# Altium schematic symbol library MU-RK3576J-MB.SCHLIB: 262 symbols (part 4 of 4)
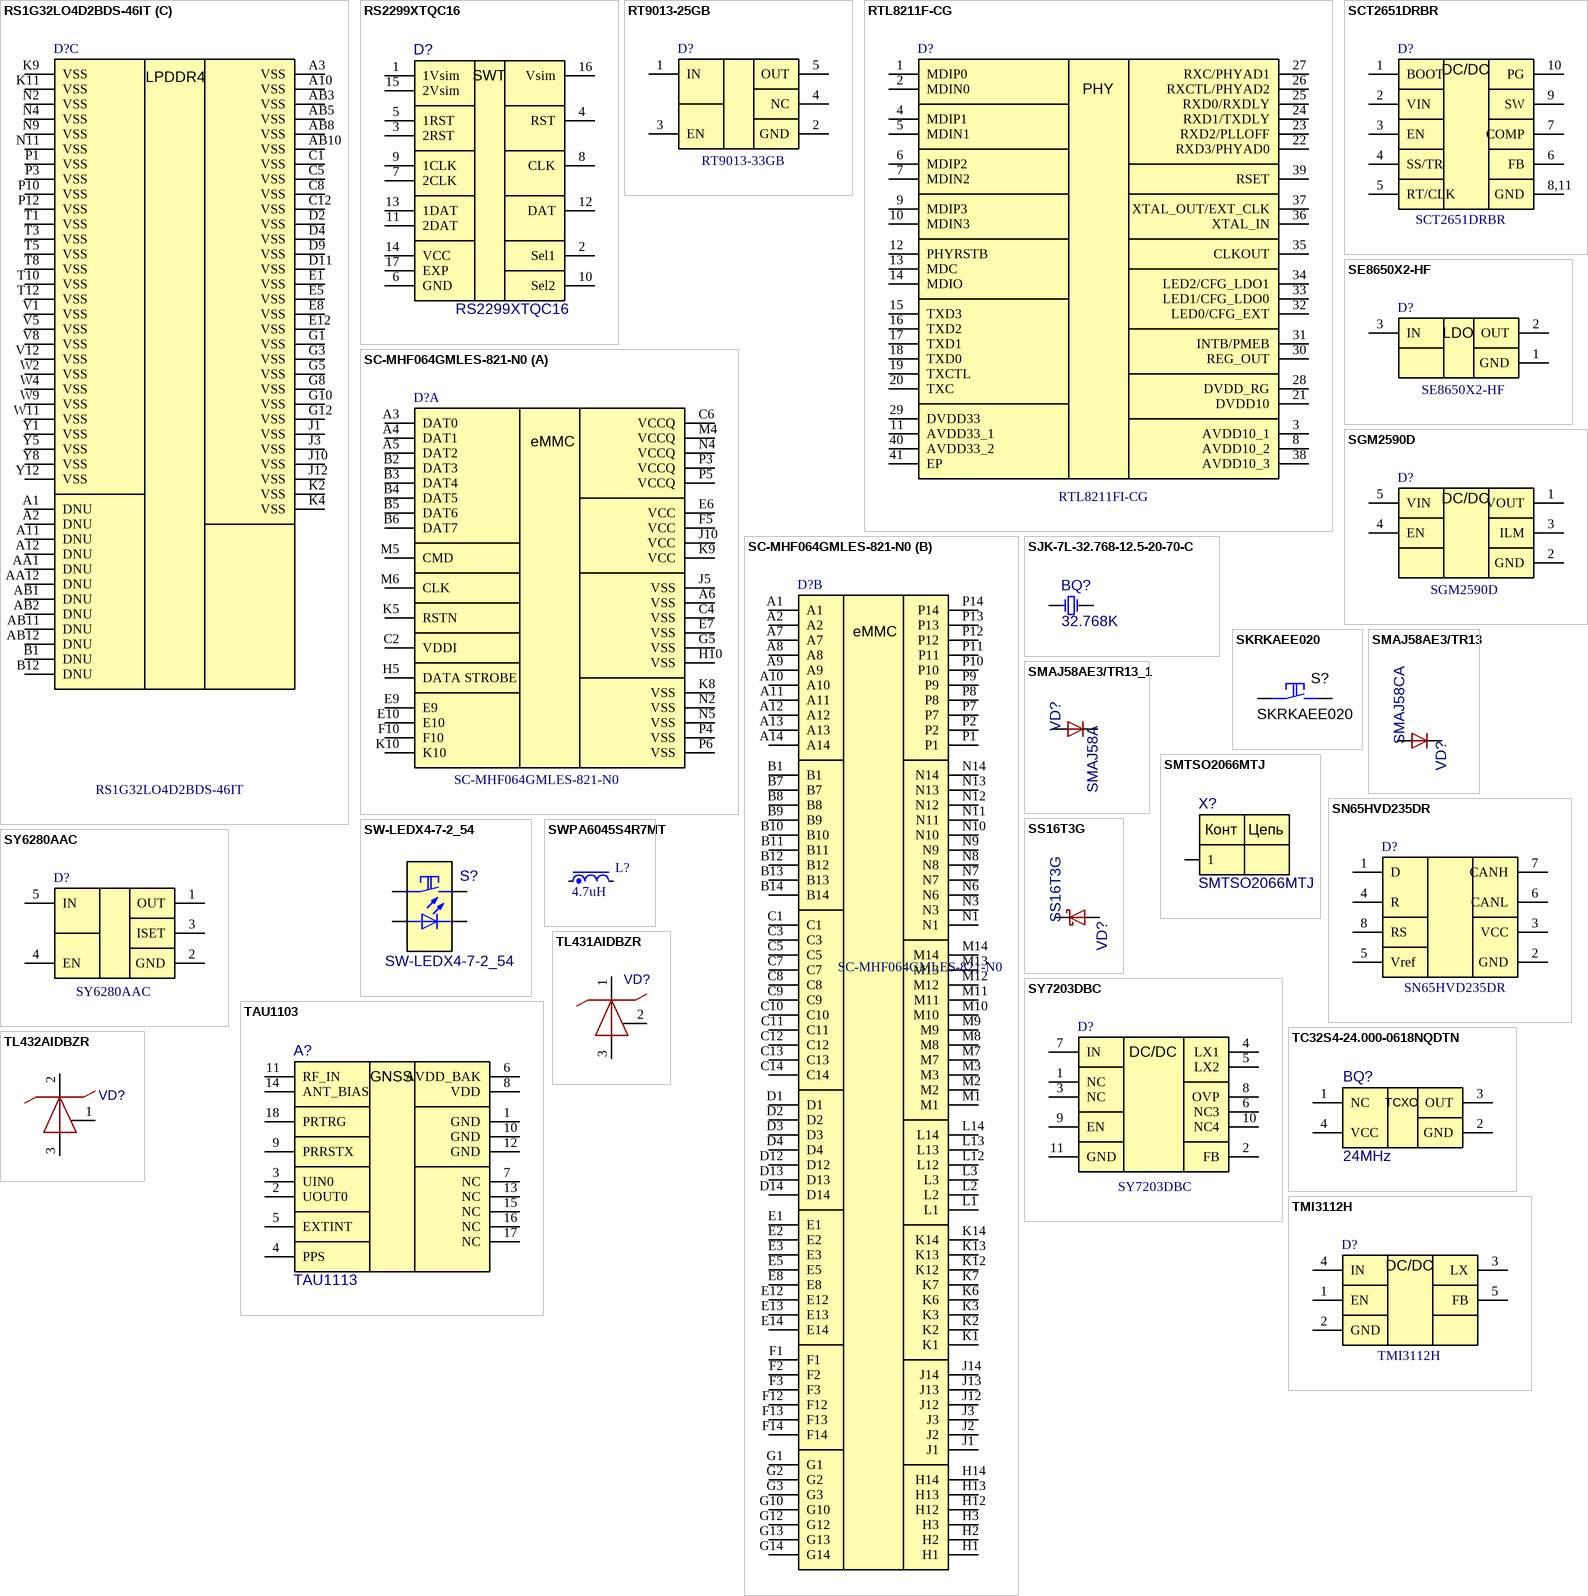
[diagram p16: symbols RS1G32LO4D2BDS-46IT to TMI3112H]

## SC-MHF064GMLES-821-N0
designator D?
Flash Card 64G-bytes 1.8V/3.3V Embedded MMC 153-Pin FBGA; Manufacturer: Samsung; Analog: KLM8G1GETF-B041; Check: False; Part Number: SC-MHF064GMLES-821-N0; NameFromManufacturer: SC-MHF064GMLES-821-N0; Value: SC-MHF064GMLES-821-N0; ComponentLink1Description: DATASHEET; Last changed: 24.03.2023
footprint KLMBG2JENB-B041_SAM
footprint SC-MHF064GMLES-821-N0
part A pins: A3 DAT0, A4 DAT1, A5 DAT2, A6 VSS, B2 DAT3, B3 DAT4, B4 DAT5, B5 DAT6, B6 DAT7, C2 VDDI, C4 VSS, C6 VCCQ, E6 VCC, E7 VSS, E9, E10, F5 VCC, F10, G5 VSS, H5 DATA STROBE, H10 VSS, J5 VSS, J10 VCC, K5 RSTN, K8 VSS, K9 VCC, K10, M4 VCCQ, M5 CMD, M6 CLK, N2 VSS, N4 VCCQ, N5 VSS, P3 VCCQ, P4 VSS, P5 VCCQ, P6 VSS
part B pins: A1, A2, A7, A8, A9, A10, A11, A12, A13, A14, B1, B7, B8, B9, B10, B11, B12, B13, B14, C1, C3, C5, C7, C8, C9, C10, C11, C12, C13, C14, D1, D2, D3, D4, D12, D13, D14, E1, E2, E3, E5, E8, E12, E13, E14, F1, F2, F3, F12, F13, F14, G1, G2, G3, G10, G12, G13, G14, H1, H2, H3, H12, H13, H14, J1, J2, J3, J12, J13, J14, K1, K2, K3, K6, K7, K12, K13, K14, L1, L2, L3, L12, L13, L14, M1, M2, M3, M7, M8, M9, M10, M11, M12, M13, M14, N1, N3, N6, N7, N8, N9, N10, N11, N12, N13, N14, P1, P2, P7, P8, P9, P10, P11, P12, P13, P14
part A text: eMMC
part B text: eMMC

## SCT2651DRBR
designator D?
4.5V-60V Vin,5A, High Efficiency Step-down DCDC Converter with Programmable Frequency; Manufacturer: SCT; Check: False; Part Number: SCT2651DRBR; NameFromManufacturer: SCT2651DRBR; Value: SCT2651DRBR
footprint SCT2651DRBR
pins: 1 BOOT, 2 VIN, 3 EN, 4 SS/TR, 5 RT/CLK, 6 FB, 7 COMP, 8,11 GND, 9 SW, 10 PG
text: DC/DC

## SE8650X2-HF
designator D?
200mA 85dB Fixed 5V Positive electrode 80V SOT-23 Linear Voltage Regulators; Manufacturer: Seaward Elec; Check: False; Part Number: SE8650X2-HF; NameFromManufacturer: SE8650X2-HF; Value: SE8650X2-HF
footprint SE8650X2-HF
pins: 1 GND, 2 OUT, 3 IN
text: LDO

## SGM2590D
designator D?
Manufacturer: SGM; Check: False; Part Number: SGM2590D; NameFromManufacturer: SGM2590D; Value: SGM2590D
footprint SGM2590D
pins: 1 VOUT, 2 GND, 3 ILM, 4 EN, 5 VIN
text: DC/DC

## SJK-7L-32.768-12.5-20-70-C
designator BQ?, comment 32.768K
*; Part Number: SJK-7L-32.768-12.5-20-70-C; Manufacturer: SJK; Place: S; Tolerance: 3ppm; Check: False; Value: 32.768K; Temperature: -40°C~85°C; NameFromManufacturer: SJK-7L-32.768-12.5-20-70-C; ComponentLink1Description: DATASHEET; ComponentLink1URL: https://roboparts.ru/upload/iblock/095/095a21a3f536a48ddbbe95c19b949316.pdf; Datasheet: Datasheets/quartz/095a21a3f536a48ddbbe95c19b949316.pdf; Last changed: 27.10.2022
footprint NX3215SA
pins: 1 inp, 2 out
2 alternate drawings of the same symbol

## SKRKAEE020
designator S?
Value: SKRKAEE020; NameFromManufacturer: SKRKAEE020; Part Number: SKRKAEE020
footprint SKRKAEE020 (TSOP, 16-Leads, Body 6.5x4.4mm, Pitch 0.65mm, IPC High Density)
pins: 1, 2

## SMAJ58AE3/TR13
designator VD?, comment SMAJ58CA
surface mount 500 W Transient Voltage Suppressor; Manufacturer: Littelfuse; Place: *); Check: False; Part Number: SMAJ58CA; Value: SMAJ58CA; Temperature: -55°C~150°C; ComponentLink1Description: DATASHEET; NameFromManufacturer: SMAJ58CA; ComponentLink1URL: https://ru.mouser.com/ProductDetail/Microchip-Technology/SMAJ58AE3-TR13?qs=pU29NIZ4ZwDTkSPRv5fxkg%3D%3D; Datasheet: Datasheets/diodes/smaj5.0_to_smaj440ca_rev_c.pdf; Last changed: 27.10.2022
footprint DO-214AC
pins: 1 C, 2 A

## SMAJ58AE3/TR13_1
designator VD?, comment SMAJ58A
surface mount 500 W Transient Voltage Suppressor; Manufacturer: Littelfuse; Place: *); Check: False; Part Number: SMAJ58A; Value: SMAJ58A; Temperature: -55°C~150°C; ComponentLink1Description: DATASHEET; NameFromManufacturer: SMAJ58A; ComponentLink1URL: https://ru.mouser.com/ProductDetail/Microchip-Technology/SMAJ58AE3-TR13?qs=pU29NIZ4ZwDTkSPRv5fxkg%3D%3D; Datasheet: Datasheets/diodes/smaj5.0_to_smaj440ca_rev_c.pdf; Last changed: 27.10.2022
footprint DO-214AC
pins: 1 C, 2 A

## SMTSO2066MTJ
designator X?
Manufacturer: Sinhoo; Check: False; Part Number: SMTSO2066MTJ; Value: SMTSO2066MTJ; NameFromManufacturer: SMTSO2066MTJ
footprint SMTSO2066MTJ (SMT Steel Spacer with internal Thread M2, height 7mm)
pins: 1
text: Конт; Цепь

## SN65HVD235DR
designator D?
3V~3.6V CAN Transceiver 1Mbps SOIC-8 Drivers, Receivers, Transceivers RoHS; Manufacturer: TI; Check: False; Part Number: SN65HVD235DR; NameFromManufacturer: SN65HVD235DR; Value: SN65HVD235DR
footprint QFN20
footprint SN65HVD235DR
pins: 1 D, 2 GND, 3 VCC, 4 R, 5 Vref, 6 CANL, 7 CANH, 8 RS

## SS16T3G
designator VD?
Schottky Power Rectifier; Manufacturer: ON Semiconductor; Place: *); Check: False; Part Number: SS16T3G; Value: SS16T3G; Temperature: -55°C~150°C; ComponentLink1Description: DATASHEET; NameFromManufacturer: SS16T3G; ComponentLink1URL: https://www.onsemi.com/pdf/datasheet/ss16-d.pdf; Datasheet: Datasheets/diodes/SS16-D.PDF; Last changed: 07.12.2022
footprint DO-214AC
pins: 1 C, 2 A

## SW-LEDX4-7-2_54
designator S?
Manufacturer: FVWIN Electronics; Check: False; Part Number: SW-LEDX4-7-2_54; Value: SW-LEDX4-7-2_54; NameFromManufacturer: SW-LEDX4-7-2_54
footprint SW-LEDX4-7-2_54
pins: 1, 2, L1 A, L2 C

## SWPA6045S4R7MT
designator L?, comment 4.7uH
SMD Power Inductor; Part Number: SWPA6045S4R7MT; Manufacturer: Sunlord; Current: 3.3A; Check: False; Value: 4.7uH; NameFromManufacturer: SWPA6045S4R7MT
footprint QFN40P500X500X90-41N-D
footprint SWPA6045S4R7MT
pins: 1, 2

## SY6280AAC
designator D?
Power Distribution Switches; Manufacturer: Silergy Corp; Check: False; Part Number: SY6280AAC; NameFromManufacturer: SY6280AAC; Value: SY6280AAC; ComponentLink1Description: DATASHEET; Last changed: 24.03.2023
footprint SY6280AAC
pins: 1 OUT, 2 GND, 3 ISET, 4 EN, 5 IN

## SY7203DBC
designator D?
1MHz PWM Boost 1 DC-DC 2.8V~30V DFN-10-EP(3x3) LED Drivers ICs RoHS; Manufacturer: Silergy; Check: False; Part Number: SY7203DBC; NameFromManufacturer: SY7203DBC; Value: SY7203DBC
footprint SY7203DBC
pins: 1 NC, 2 FB, 3 NC, 4 LX1, 5 LX2, 6 NC3, 7 IN, 8 OVP, 9 EN, 10 NC4, 11 GND
text: DC/DC

## TAU1103
designator A?, comment TAU1113
GNSS Positioning Module; Manufacturer: Allystar; Place: S; Check: False; Part Number: TAU1113; Value: TAU1113; Temperature: -40°C~85°C; ComponentLink1Description: DATASHEET; NameFromManufacturer: TAU1113; ComponentLink1URL: https://www.euromobile.ru/produkciya/glonass-gps-moduli/tau1103/#documents; Datasheet: Datasheets/modules/T-5-2107-TAU1103 Datasheet-V1.4.pdf; Last changed: 27.10.2022
footprint TAU1103
pins: 1 GND, 2 UOUT0, 3 UIN0, 4 PPS, 5 EXTINT, 6 AVDD_BAK, 7 NC, 8 VDD, 9 PRRSTX, 10 GND, 11 RF_IN, 12 GND, 13 NC, 14 ANT_BIAS, 15 NC, 16 NC, 17 NC, 18 PRTRG
text: GNSS

## TC32S4-24.000-0618NQDTN
designator BQ?, comment 24MHz
TCXO SMD 3.2x2.5, Clipped Sine, 1.8V; Part Number: TC32S4-24.000-0618NQDTN; Manufacturer: HCI; Check: False; Analogs: ECS-TXO-3225MV-240-TR; Value: 24MHz; NameFromManufacturer: TC32S4-24.000-0618NQDTN
footprint TC32S4-24.000-0618NQDTN
pins: 1 NC, 2 GND, 3 OUT, 4 VCC
2 alternate drawings of the same symbol
text: TCXO

## TL431AIDBZR
designator VD?  (value not drawn)
Источник опорного напряжения, программируемый стабилитрон; Мин выходное напряжение: 2.495 В; Макс выходное напряжение: 36 В; Выходной ток: 100 мА; Производитель: Texas Instruments; Корпус: SOT-23-3; Способ монтажа: поверхностный; Part Number: TL431AIDBZR; Мин входное напряжение: -; Макс входное напряжение: -; URLs: https://www.chipdip.ru/product/tl431aidbzr
footprint SOT-23-3
pins: 1 K, 2 REF, 3 A

## TL432AIDBZR
designator VD?  (value not drawn)
Источник опорного напряжения, программируемый стабилитрон; Мин выходное напряжение: 2.495 В; Макс выходное напряжение: 36 В; Выходной ток: 100 мА; Производитель: Texas Instruments; Корпус: SOT-23-3; Способ монтажа: Поверхностный; Part Number: TL432AIDBZR; Мин входное напряжение: -; Макс входное напряжение: -; URLs: https://www.chipdip.ru/product0/8022977750
footprint SOT-23-3
pins: 1 REF, 2 K, 3 A

## TMI3112H
designator D?
Buck 2.3MHz Adjustable 2A 600mV~5.5V SOT-23-5 Voltage Regulators - DC DC Switching Regulators RoHS; Manufacturer: TMI; Check: False; Part Number: TMI3112H; NameFromManufacturer: TMI3112H; Value: TMI3112H
footprint TMI3112H
pins: 1 EN, 2 GND, 3 LX, 4 IN, 5 FB
text: DC/DC

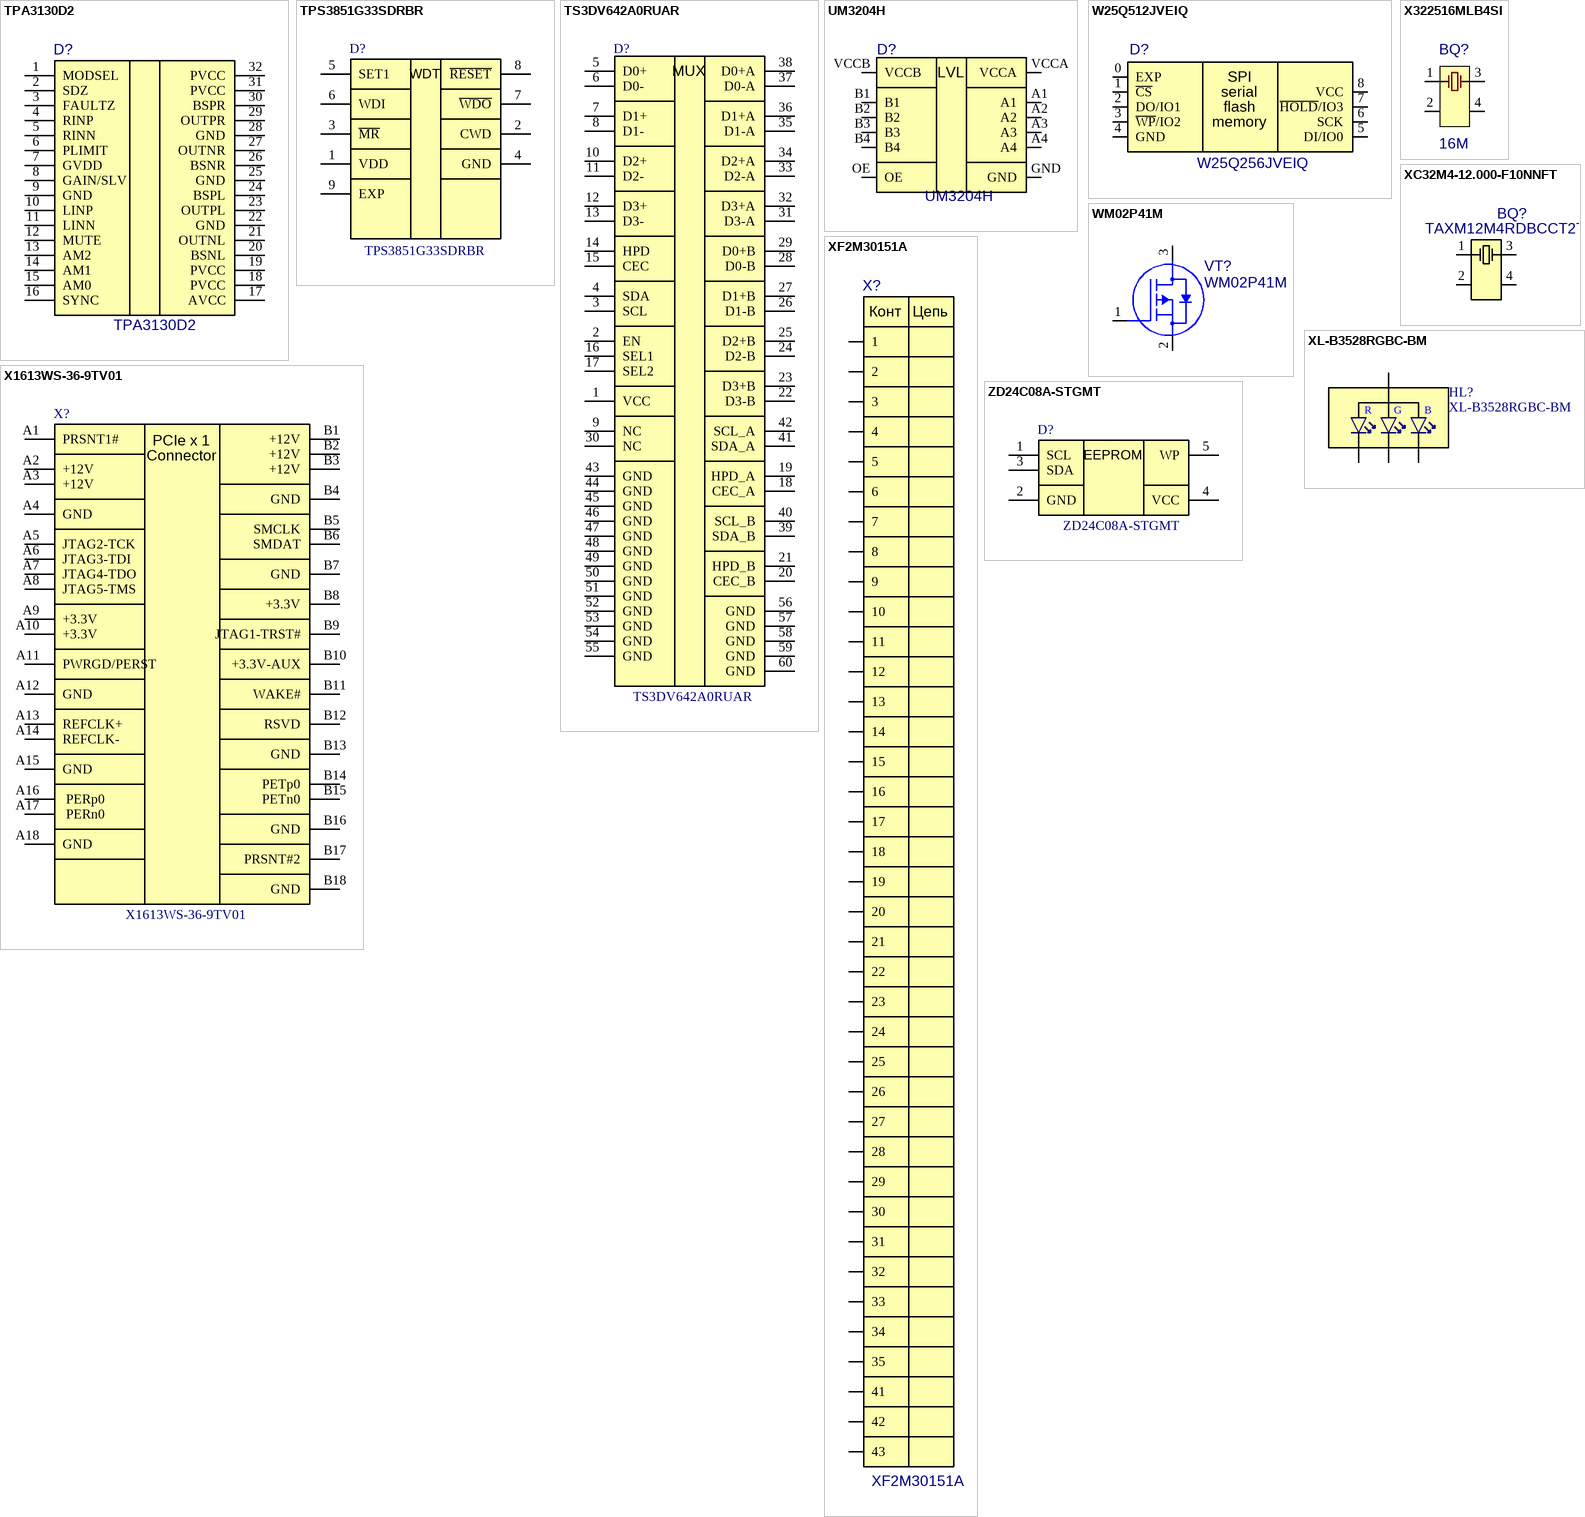
[diagram p12: symbols TPA3130D2 to ZD24C08A-STGMT]

## TPA3130D2
designator D?
TPA3130D2 Evaluation Module; Manufacturer: Texas Instruments; Place: S; Check: False; Part Number: TPA3130D2; Temperature: -40°C~85°C; Value: TPA3130D2; ComponentLink1Description: DATASHEET; NameFromManufacturer: TPA3130D2; ComponentLink1URL: https://octopart.com/tpa3130d2evm-texas+instruments-22881734?r=sp; Datasheet: #https://www.ti.com/lit/ds/slos708g/slos708g.pdf?ts=1627825887126&ref_url=https%253A%252F%252Fwww.ti.com%252Fproduct%252FTPA3116D2#; Last changed: 02.08.2021
footprint TSOP65P810X115-32M
pins: 1 MODSEL, 2 SDZ, 3 FAULTZ, 4 RINP, 5 RINN, 6 PLIMIT, 7 GVDD, 8 GAIN/SLV, 9 GND, 10 LINP, 11 LINN, 12 MUTE, 13 AM2, 14 AM1, 15 AM0, 16 SYNC, 17 AVCC, 18 PVCC, 19 PVCC, 20 BSNL, 21 OUTNL, 22 GND, 23 OUTPL, 24 BSPL, 25 GND, 26 BSNR, 27 OUTNR, 28 GND, 29 OUTPR, 30 BSPR, 31 PVCC, 32 PVCC

## TPS3851G33SDRBR
designator D?
High-accuracy voltage supervisor with Integrated watchdog timer; Manufacturer: Texas Instruments; Check: False; Part Number: TPS3851G33SDRBR; NameFromManufacturer: TPS3851G33SDRBR; Value: TPS3851G33SDRBR
footprint TPS3851G33SDRBR
pins: 1 VDD, 2 CWD, 3 ~{MR}, 4 GND, 5 SET1, 6 WDI, 7 ~{WDO}, 8 ~{RESET}, 9 EXP
text: WDT

## TS3DV642A0RUAR
designator D?
6-Gbps 12-channel differential 1-to-2 and 2-to-1 mux for DVI 1.0/ DisplayPort 1.4 /HDMI 2.0; Manufacturer: TI; Check: False; Part Number: TS3DV642A0RUAR; NameFromManufacturer: TS3DV642A0RUAR; Value: TS3DV642A0RUAR
footprint QFN20
footprint TS3DV642A0RUAR
pins: 1 VCC, 2 EN, 3 SCL, 4 SDA, 5 D0+, 6 D0-, 7 D1+, 8 D1-, 9 NC, 10 D2+, 11 D2-, 12 D3+, 13 D3-, 14 HPD, 15 CEC, 16 SEL1, 17 SEL2, 18 CEC_A, 19 HPD_A, 20 CEC_B, 21 HPD_B, 22 D3-B, 23 D3+B, 24 D2-B, 25 D2+B, 26 D1-B, 27 D1+B, 28 D0-B, 29 D0+B, 30 NC, 31 D3-A, 32 D3+A, 33 D2-A, 34 D2+A, 35 D1-A, 36 D1+A, 37 D0-A, 38 D0+A, 39 SDA_B, 40 SCL_B, 41 SDA_A, 42 SCL_A, 43 GND, 44 GND, 45 GND, 46 GND, 47 GND, 48 GND, 49 GND, 50 GND, 51 GND, 52 GND, 53 GND, 54 GND, 55 GND, 56 GND, 57 GND, 58 GND, 59 GND, 60 GND
text: MUX

## UM3204H
designator D?
CSP-12(1.4x1.9) Translators, Level Shifters ROHS; Manufacturer: Union; Check: False; Part Number: UM3204H; Value: UM3204H; NameFromManufacturer: UM3204H
footprint UM3204H
pins: A1, A2, A3, A4, B1, B2, B3, B4, GND, OE, VCCA, VCCB
text: LVL

## W25Q512JVEIQ
designator D?, comment W25Q256JVEIQ
3V 256M-BIT SERIAL FLASH MEMORY WITH DUAL/QUAD SPI; Manufacturer: Winbond; Place: *); Check: False; Part Number: W25Q256JVEIQ; Temperature: -40°C~85°C; Value: W25Q256JVEIQ; ComponentLink1Description: DATASHEET; NameFromManufacturer: W25Q256JVEIQ; ComponentLink1URL: https://www.digikey.com/en/products/detail/winbond-electronics/W25Q512JVEIQ/10244706; Datasheet: Datasheets/ic/W25Q512JV_SPI_RevF_09032021Plus.pdf; Last changed: 27.10.2022
footprint WSON-8-8x6
pins: 0 EXP, 1 ~{CS}, 2 DO/IO1, 3 ~{WP}/IO2, 4 GND, 5 DI/IO0, 6 SCK, 7 ~{HOLD}/IO3, 8 VCC
text: SPI; serial; flash; memory

## WM02P41M
designator VT?
Small signal mosfet; Manufacturer: Wayon; Place: S; Voltage: -20V; Check: False; Part Number: WM02P41M; Value: WM02P41M; Temperature: -55°C~150°C; ComponentLink1Description: DATASHEET; NameFromManufacturer: WM02P41M; ComponentLink1URL: https://www.terraelectronica.ru/product/5031341; Datasheet: Datasheets/transistors/UM6K34NTCN.pdf; Last changeв: 27.10.2022
footprint SOIC127P600X175-8N
footprint SOT23
pins: 1, 2, 3

## X1613WS-36-9TV01
designator X?
Clamp Plate 36P Through Hole,P=1mm Pluggable Connector Assemblies ROHS; Manufacturer: XKB Connection; Check: False; Value: X1613WS-36-9TV01; Part Number: X1613WS-36-9TV01; NameFromManufacturer: X1613WS-36-9TV01
footprint X1613WS-36-9TV01
pins: A1 PRSNT1#, A2 +12V, A3 +12V, A4 GND, A5 JTAG2-TCK, A6 JTAG3-TDI, A7 JTAG4-TDO, A8 JTAG5-TMS , A9 +3.3V, A10 +3.3V, A11 PWRGD/PERST, A12 GND, A13 REFCLK+, A14 REFCLK-, A15 GND, A16  PERp0, A17  PERn0, A18 GND, B1 +12V, B2 +12V, B3 +12V, B4 GND, B5  SMCLK, B6 SMDAT, B7 GND, B8 +3.3V, B9 JTAG1-TRST#, B10 +3.3V-AUX, B11 WAKE#, B12 RSVD, B13 GND, B14 PETp0, B15  PETn0, B16 GND, B17 PRSNT#2, B18 GND
text: PCIe x 1; Connector

## X322516MLB4SI
designator BQ?, comment 16M
16MHz 3225 quartz; Part Number: X322516MLB4SI; Manufacturer: YXC; Place: *); Tolerance: 30ppm; Check: False; Value: 16M; Temperature: -40°C~85°C; NameFromManufacturer: X322516MLB4SI; ComponentLink1Description: DATASHEET; ComponentLink1URL: https://www.electronshik.ru/item/YXC/X322516MLB4SI; Datasheet: Darasheets/quartz/YSX321SL.pdf#http://Darasheets/quartz/YSX321SL.pdf#; Last changed: 18.05.2023
footprint NX3225GA
pins: 1, 2, 3, 4
2 alternate drawings of the same symbol

## XC32M4-12.000-F10NNFT
designator BQ?, comment TAXM12M4RDBCCT2T
12MHz 10pF ±10ppm SMD3225-4P; Manufacturer: TAE; Check: False; Part Number: TAXM12M4RDBCCT2T; Value: TAXM12M4RDBCCT2T; NameFromManufacturer: TAXM12M4RDBCCT2T
footprint XC32M4-12.000-F10NNFT
pins: 1, 2, 3, 4
2 alternate drawings of the same symbol

## XF2M30151A
designator X?
FFC разъем, 30PIN, 0.5мм, 50В; Manufacturer: Omron; Check: False; Part Number: XF2M30151A; Value: XF2M30151A; NameFromManufacturer: XF2M30151A
footprint XF2M30151A
pins: 1, 2, 3, 4, 5, 6, 7, 8, 9, 10, 11, 12, 13, 14, 15, 16, 17, 18, 19, 20, 21, 22, 23, 24, 25, 26, 27, 28, 29, 30, 31, 32, 33, 34, 35, 41, 42, 43
text: Конт; Цепь

## XL-B3528RGBC-BM
designator HL?
20mA 无色透明透镜 -40℃~+85℃ Common anode 正贴 RGB 45mW SMD2835-4P Light Emitting Diodes (LED) ROHS; Manufacturer: XINGLIGHT; Check: False; Part Number: XL-B3528RGBC-BM; NameFromManufacturer: XL-B3528RGBC-BM; Value: XL-B3528RGBC-BM
footprint XL-B3528RGBC-BM
pins: 1, 2, 3, 4
text: R; G; B

## ZD24C08A-STGMT
designator D?
8Kbit 1MHz I2C SOT-23-5 EEPROM; Manufacturer: Zetta; Check: False; Part Number: ZD24C08A-STGMT; NameFromManufacturer: ZD24C08A-STGMT; Value: ZD24C08A-STGMT
footprint BM8563ESA
footprint ZD24C08A-STGMT
pins: 1 SCL, 2 GND, 3 SDA, 4 VCC, 5 WP
text: EEPROM

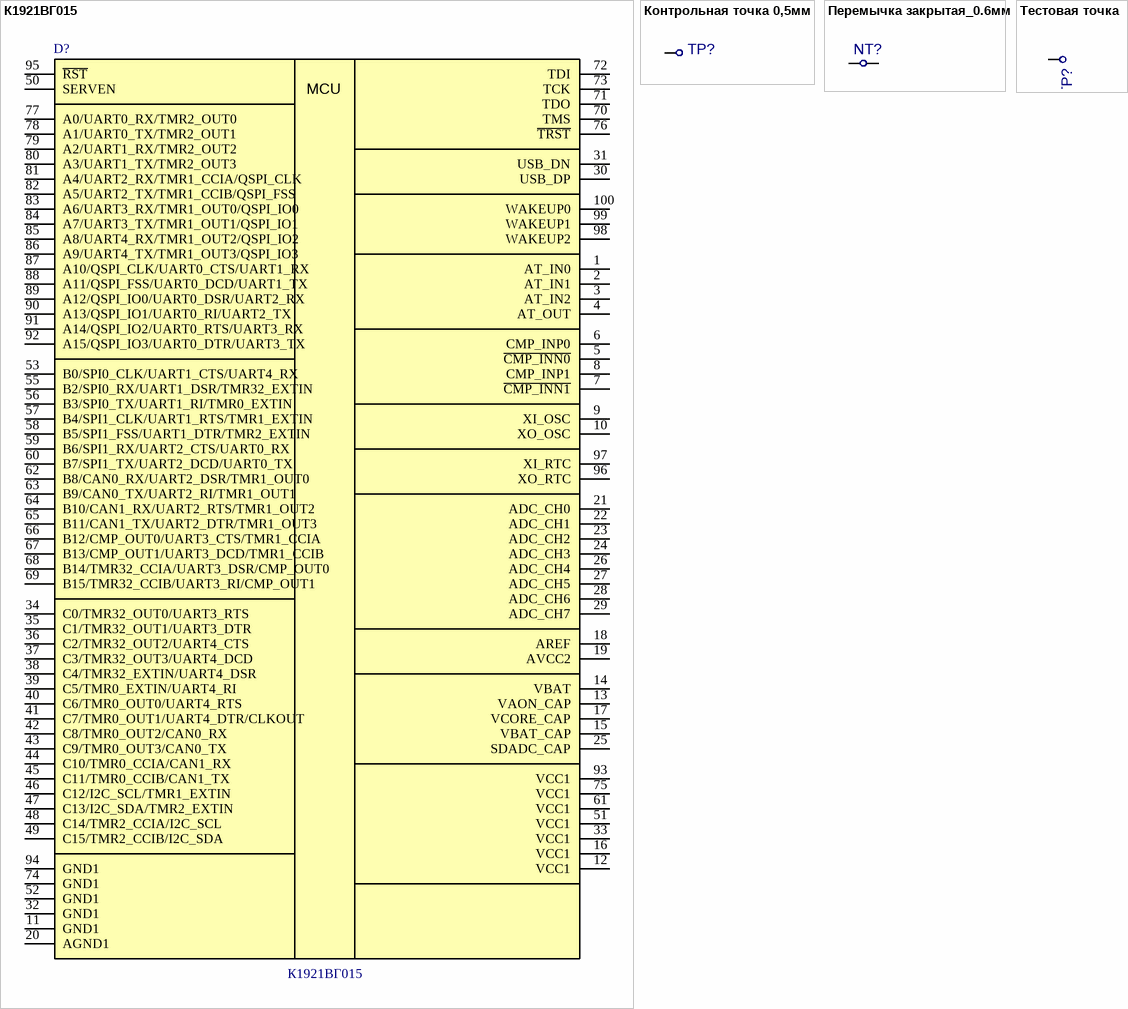
[diagram p13: symbols К1921ВГ015 to Тестовая точка]

## К1921ВГ015
designator D?
32-разрядный ультранизкопотребляющий микроконтроллер RISС-V в пластиковом корпусе.; Manufacturer: НИИЭТ; Check: False; Part Number: К1921ВГ015; Value: К1921ВГ015; NameFromManufacturer: К1921ВГ015
footprint К1921ВГ015
pins: 1 AT_IN0, 2 AT_IN1, 3 AT_IN2, 4 AT_OUT, 5 ~{CMP_INN0}, 6 CMP_INP0, 7 ~{CMP_INN1}, 8 CMP_INP1, 9 XI_OSC, 10 XO_OSC, 11 GND1, 12 VCC1, 13 VAON_CAP, 14 VBAT, 15 VBAT_CAP, 16 VCC1, 17 VCORE_CAP, 18 AREF, 19 AVCC2, 20 AGND1, 21 ADC_CH0, 22 ADC_CH1, 23 ADC_CH2, 24 ADC_CH3, 25 SDADC_CAP, 26 ADC_CH4, 27 ADC_CH5, 28 ADC_CH6, 29 ADC_CH7, 30 USB_DP, 31 USB_DN, 32 GND1, 33 VCC1, 34 C0/TMR32_OUT0/UART3_RTS, 35 C1/TMR32_OUT1/UART3_DTR, 36 C2/TMR32_OUT2/UART4_CTS, 37 C3/TMR32_OUT3/UART4_DCD, 38 C4/TMR32_EXTIN/UART4_DSR, 39 C5/TMR0_EXTIN/UART4_RI, 40 C6/TMR0_OUT0/UART4_RTS, 41 C7/TMR0_OUT1/UART4_DTR/CLKOUT, 42 C8/TMR0_OUT2/CAN0_RX, 43 C9/TMR0_OUT3/CAN0_TX, 44 C10/TMR0_CCIA/CAN1_RX, 45 C11/TMR0_CCIB/CAN1_TX, 46 C12/I2C_SCL/TMR1_EXTIN, 47 C13/I2C_SDA/TMR2_EXTIN, 48 C14/TMR2_CCIA/I2C_SCL, 49 C15/TMR2_CCIB/I2C_SDA, 50 SERVEN, 51 VCC1, 52 GND1, 53 B0/SPI0_CLK/UART1_CTS/UART4_RX, 55 B2/SPI0_RX/UART1_DSR/TMR32_EXTIN, 56 B3/SPI0_TX/UART1_RI/TMR0_EXTIN, 57 B4/SPI1_CLK/UART1_RTS/TMR1_EXTIN, 58 B5/SPI1_FSS/UART1_DTR/TMR2_EXTIN, 59 B6/SPI1_RX/UART2_CTS/UART0_RX, 60 B7/SPI1_TX/UART2_DCD/UART0_TX, 61 VCC1, 62 B8/CAN0_RX/UART2_DSR/TMR1_OUT0, 63 B9/CAN0_TX/UART2_RI/TMR1_OUT1, 64 B10/CAN1_RX/UART2_RTS/TMR1_OUT2, 65 B11/CAN1_TX/UART2_DTR/TMR1_OUT3, 66 B12/CMP_OUT0/UART3_CTS/TMR1_CCIA, 67 B13/CMP_OUT1/UART3_DCD/TMR1_CCIB, 68 B14/TMR32_CCIA/UART3_DSR/CMP_OUT0, 69 B15/TMR32_CCIB/UART3_RI/CMP_OUT1, 70 TMS, 71 TDO, 72 TDI, 73 TCK, 74 GND1, 75 VCC1, 76 ~{TRST}, 77 A0/UART0_RX/TMR2_OUT0, 78 A1/UART0_TX/TMR2_OUT1, 79 A2/UART1_RX/TMR2_OUT2, 80 A3/UART1_TX/TMR2_OUT3, 81 A4/UART2_RX/TMR1_CCIA/QSPI_CLK, 82 A5/UART2_TX/TMR1_CCIB/QSPI_FSS, 83 A6/UART3_RX/TMR1_OUT0/QSPI_IO0, 84 A7/UART3_TX/TMR1_OUT1/QSPI_IO1, 85 A8/UART4_RX/TMR1_OUT2/QSPI_IO2, 86 A9/UART4_TX/TMR1_OUT3/QSPI_IO3, 87 A10/QSPI_CLK/UART0_CTS/UART1_RX, 88 A11/QSPI_FSS/UART0_DCD/UART1_TX, 89 A12/QSPI_IO0/UART0_DSR/UART2_RX, 90 A13/QSPI_IO1/UART0_RI/UART2_TX, 91 A14/QSPI_IO2/UART0_RTS/UART3_RX, 92 A15/QSPI_IO3/UART0_DTR/UART3_TX, 93 VCC1, 94 GND1, 95 ~{RST}, 96 XO_RTC, 97 XI_RTC, 98 WAKEUP2, 99 WAKEUP1, 100 WAKEUP0
text: MCU

## Контрольная точка 0,5мм
designator TP?, comment Контрольная точка  (value not drawn)  (no BOM)
*; Part Number: Контрольная точка 0,5мм; Check: False; Value: Контрольная точка; ComponentLink1Description: DATASHEET; Manufacturer: *
footprint Контр_точка_0.5mm
pins: 1

## Перемычка закрытая_0.6мм
designator NT?  (net tie, no BOM)
Part Number: Перемычка закрытая_0.6мм; Check: False; ComponentLink1Description: DATASHEET; Last changed: 06.05.2021
footprint NetTie_0.6mm_close
pins: 1, 2

## Тестовая точка
designator TP?  (value not drawn)  (no BOM)
*; Check: False; Part Number: Тестовая точка; Value: Тестовая точка; ComponentLink1Description: DATASHEET; Manufacturer: *
footprint TEST
pins: 1